# Altium footprint library PcbLib2.PcbLib: 3 footprints
Each footprint in its own frame and in the unit in brackets; x right, y up, seen from the top. Pads: shape width x height; smd on the part's side, far side on the other; paste and mask are expansions set on the pad; w line width, h text height; cw(c..) or ccw(c..) is an arc to the next point about the centre after c.
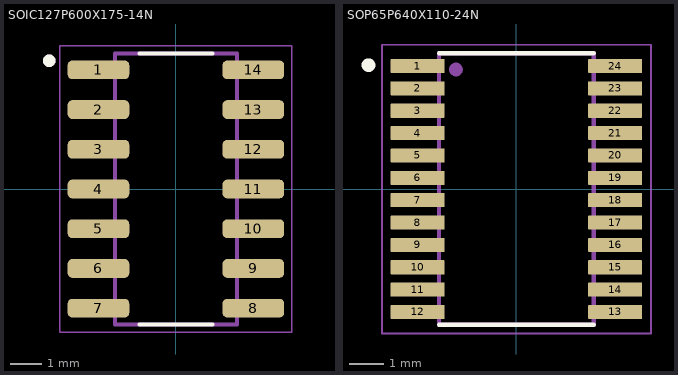
[diagram p0: the footprints below, top view; thin cyan lines are the x and y axes]

## PCBComponent_1 [mm]

## SOIC127P600X175-14N [mm]
pads (14):
  rrect50% 1.97x0.6 smd: 1(-2.475,3.81) 2(-2.475,2.54) 3(-2.475,1.27) 4(-2.475,0) 5(-2.475,-1.27) 6(-2.475,-2.54) 7(-2.475,-3.81) 8(2.475,-3.81) 9(2.475,-2.54) 10(2.475,-1.27) 11(2.475,0) 12(2.475,1.27) 13(2.475,2.54) 14(2.475,3.81)
Top Overlay:
  circle w0.2: c-4.05,4.1 r0.1
  lines w0.127: -1.17,-4.325 1.17,-4.325 ; -1.17,4.325 1.17,4.325
Mechanical 13:
  circle w0.2: c-4.05,4.1 r0.1
  lines w0.127: -1.95,-4.325 1.95,-4.325 1.95,4.325 -1.95,4.325 -1.95,-4.325
Mechanical 15:
  lines w0.05: -3.71,-4.575 3.71,-4.575 3.71,4.575 -3.71,4.575 -3.71,-4.575
3D body "D0014A.stp": height 1.75, standoff 0, extent -3.013,-4.325 3.013,4.325

## SOP65P640X110-24N [mm]
pads (24):
  rrect10% 1.57x0.41 smd: 1(-2.87,3.575) 2(-2.87,2.925) 3(-2.87,2.275) 4(-2.87,1.625) 5(-2.87,0.975) 6(-2.87,0.325) 7(-2.87,-0.325) 8(-2.87,-0.975) 9(-2.87,-1.625) 10(-2.87,-2.275) 11(-2.87,-2.925) 12(-2.87,-3.575) 13(2.87,-3.575) 14(2.87,-2.925) 15(2.87,-2.275) 16(2.87,-1.625) 17(2.87,-0.975) 18(2.87,-0.325) 19(2.87,0.325) 20(2.87,0.975) 21(2.87,1.625) 22(2.87,2.275) 23(2.87,2.925) 24(2.87,3.575)
Top Overlay:
  circle w0.2: c-4.3,3.6 r0.1
  lines w0.127: -2.25,-3.95 2.25,-3.95 ; -2.25,3.95 2.25,3.95
Mechanical 13:
  circle w0.2: c-1.76,3.473 r0.1
  lines w0.127: -2.25,-3.95 -2.25,3.95 2.25,3.95 2.25,-3.95 -2.25,-3.95
Mechanical 15:
  lines w0.05: -3.91,-4.2 -3.91,4.191 3.91,4.191 3.91,-4.2 -3.91,-4.2
3D body "PCA9555APW,118.STEP": height 1.1, standoff 0, extent -3.264,-3.904 3.136,3.896